# Altium schematic symbol library A3967SLB.SchLib: 1 symbol
Pins are listed as number, name and electrical type; pins without a type are passive.

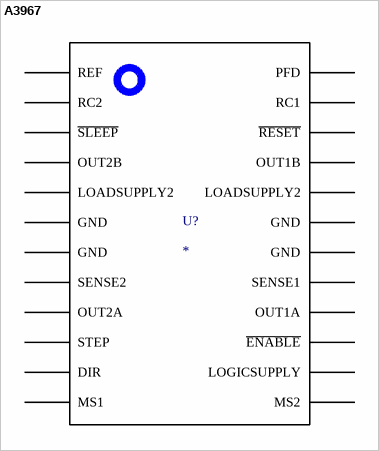
[diagram p0: symbol A3967]

## A3967
designator U?
Stepper Driver with Translator
footprint A3967SLB
footprint Model Name (Footprint not found)
pins: 1 REF, 2 RC2, 3 ~{SLEEP}, 4 OUT2B, 5 LOADSUPPLY2, 6 GND, 7 GND, 8 SENSE2, 9 OUT2A, 10 STEP, 11 DIR, 12 MS1, 13 MS2, 14 LOGICSUPPLY, 15 ~{ENABLE}, 16 OUT1A, 17 SENSE1, 18 GND, 19 GND, 20 LOADSUPPLY2, 21 OUT1B, 22 ~{RESET}, 23 RC1, 24 PFD